# EAGLE library part 74*159 (library 74xx-eu)
4-line to 16-line DECODER/DEMULTIPLEXER, open collector
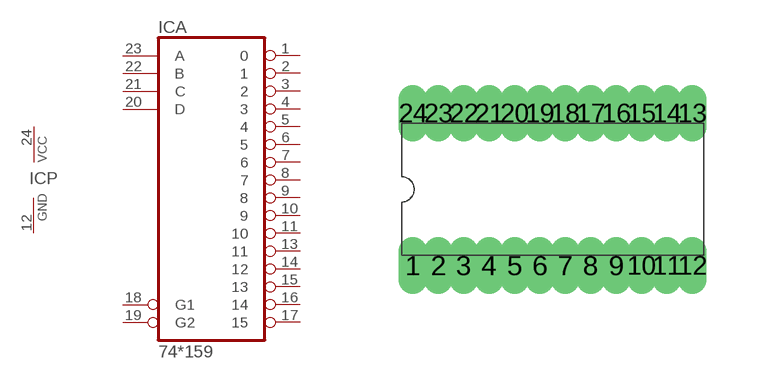
[diagram p109: symbol with the pads of DIL24-6; footprint DIL24-6]

Designator prefix IC; gates A=74159 P=PWRN

## 74159N  [DIL24-6]
1  A:0  oc
2  A:1  oc
3  A:2  oc
4  A:3  oc
5  A:4  oc
6  A:5  oc
7  A:6  oc
8  A:7  oc
9  A:8  oc
10  A:9  oc
11  A:10  oc
12  P:GND  pwr
13  A:11  oc
14  A:12  oc
15  A:13  oc
16  A:14  oc
17  A:15  oc
18  A:G1  in
19  A:G2  in
20  A:D  in
21  A:C  in
22  A:B  in
23  A:A  in
24  P:VCC  pwr

## Footprint DIL24-6 (pad centres in mm)
Dual In Line Package 0.6 inch
drill 0.203 long: 1 -3.493,-1.905; 2 -2.857,-1.905; 3 -2.223,-1.905; 4 -1.587,-1.905; 5 -0.953,-1.905; 6 -0.318,-1.905; 7 0.318,-1.905; 8 0.953,-1.905; 9 1.587,-1.905; 10 2.223,-1.905; 11 2.857,-1.905; 12 3.493,-1.905; 13 3.493,1.905; 14 2.857,1.905; 15 2.223,1.905; 16 1.587,1.905; 17 0.953,1.905; 18 0.318,1.905; 19 -0.318,1.905; 20 -0.953,1.905; 21 -1.587,1.905; 22 -2.223,1.905; 23 -2.857,1.905; 24 -3.493,1.905